# Altium schematic symbol library TL53EF160Q.Schlib: 1 symbol
Pins are listed as number, name and electrical type; pins without a type are passive.

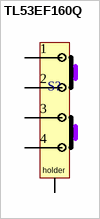
[diagram p0: symbol TL53EF160Q]

## TL53EF160Q
designator S?
2X SPST Tactile Switch
pins: 1, 2, 3, 4, 5
text: holder